# EAGLE library part MAG3110 (library MAG3110)
Xtrinsic MAG3110 Three-Axis, Digital Magnetometer - Freescale’s MAG3110 is a small, low-power, digital 3-axis magnetometer. The device can be used in conjunction with a 3-axis accelerometer to realize an orientation independent electronic compass that can provide accurate heading information. It features a standard I2C serial interface output and smart embedded functions. The MAG3110 is capable of measuring magnetic fields with an output data rate up to 80 Hz - these output data rates correspond to sample intervals from 12.5 ms to several seconds. The MAG3110 is available in a plastic DFN package and it is guaranteed to operate over the extended temperature range of -40°C to +85°C
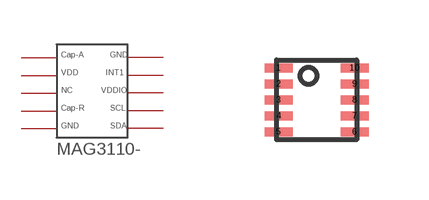
[diagram p0: symbol with the pads of DFN-10; footprint DFN-10]

Designator prefix MAG3110-

## MAG3110  [DFN-10]
1  CAP-A
2  VDD
3  NC
4  CAP-R
5  GND
6  SDA
7  SCL
8  VDDIO
9  INT1
10  GND1

## Footprint DFN-10 (pad centres in mm)
smd 0.7 x 0.225: 1 0.05,1.8; 2 0.05,1.4; 3 0.05,1; 4 0.05,0.6; 5 0.05,0.2; 6 1.95,0.2; 7 1.95,0.6; 8 1.95,1; 9 1.95,1.4; 10 1.95,1.8